# EAGLE library part ATTINY*14 (library atmel)
8-bit AVR tiny-1-series Microcontroller CPU: two-cycle hardware multiplier single pin Unified Program Debug Interface (UPDI) programmable watchdog timer with separate on-chip oscillator programmable brown-out detection circuit with software disable function internal calibrated oscillator Status aktiv aktiv aktiv aktiv ATtiny214 ATtiny414 ATtiny814 ATtiny1614 General purpose working registers 32 SRAM 128 B 256 B 512 B 2 kB Program flash memory 2 kB 4 kB 8 kB 16 kB EEPROM 64 B 128 B 128 B 256 B 16-bit Timer/Counter type A (TCA) 1 16-bit Timer/Counter type B (TCB) 1 2 12-bit Timer/Counter type D (TCD) 1 Real Time Counter (RTC) 1 USART 1 SPI 1 TWI (I2C) 1 ADC 1 2 ADC channels 10 10+4 ADC resolution 10 bit DAC 1 3 AC 1 3 Peripheral Touch Controller (PTC) - 1 PTC number of self-capacitance channels - 6 PTC number of mutual-capacitance channels - 9 Custom Configurable Logic/Lookup tables 1/2 Window Watchdog 1 Event System channels 6 General purpose I/O 12 External interrupts 12 CRCSCAN 1 Operating voltage 1.8 ... 5.5 V Speed grade 0 ... 5 MHz @ 1.8 ... 5.5 V 0 ... 10 MHz @ 2.7 ... 5.5 V 0 ... 20 MHz @ 4.5 ... 5.5 V Clock options internal 16/20 MHz low power RC oscillator internal 32.768 kHz ultra low power RC oscillator external 32.768 kHz low-frequency crystal oscillator external clock input Pin Name Other/Special ADC0 ADC1 PTC AC0 AC1 AC2 DAC0 USART0 SPI0 TWI0 TCA0 TCBn TCD0 CCL PA0 !RESET, UPDI AIN0 LUT0-IN0 PA1 AIN1 TxD MOSI SDA LUT0-IN1 PA2 EVOUT0 AIN2 RxD MISO SCL LUT0-IN2 PA3 EXTCLK AIN3 XCK SCK WO3 TCB1 WO PA4 AIN4 AIN0 X0/Y0 XDIR !SS WO4 WOA LUT0-OUT PA5 VREFA AIN5 AIN1 X1/Y1 OUT AINN0 WO5 TCB0 WO WOB PA6 AIN6 AIN2 X2/Y2 AINN0 AINP1 AINP0 OUT PA7 AIN7 AIN3 X3/Y3 AINP0 AINP0 AINN0 LUT1-OUT PB3 TOSC1 OUT RxD WO0 PB2 TOSC2, EVOUT1 OUT TxD WO2 PB1 AIN10 X4/Y4 AINP2 XCK SDA WO1 PB0 AIN11 X5/Y5 AINP2 AINP1 XDIR SCL WO0 only available in devices with 8/16KByte flash, X- or Y-line only available in device ATtiny1614
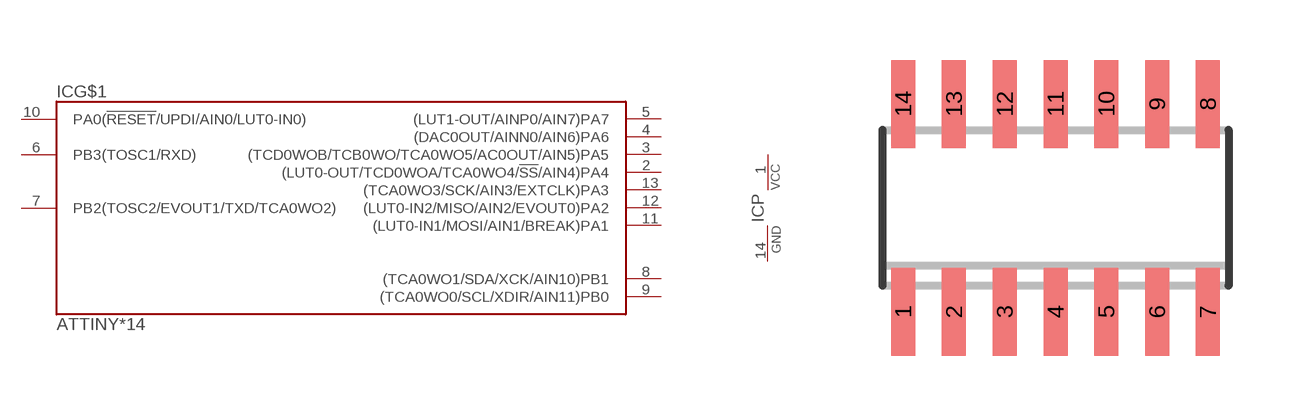
[diagram p89: symbol with the pads of SO14; footprint SO14]

Designator prefix IC; gates G$1=TINY814 P=PWR

## ATTINY1614-SSN, ATTINY214-SSN, ATTINY414-SSN, ATTINY814-SSN  [SO14]
1  P:VCC  pwr
2  G$1:(LUT0-OUT/TCD0WOA/TCA0WO4/!SS!/AIN4)PA4
3  G$1:(TCD0WOB/TCB0WO/TCA0WO5/AC0OUT/AIN5)PA5
4  G$1:(DAC0OUT/AINN0/AIN6)PA6
5  G$1:(LUT1-OUT/AINP0/AIN7)PA7
6  G$1:PB3(TOSC1/RXD)
7  G$1:PB2(TOSC2/EVOUT1/TXD/TCA0WO2)
8  G$1:(TCA0WO1/SDA/XCK/AIN10)PB1
9  G$1:(TCA0WO0/SCL/XDIR/AIN11)PB0
10  G$1:PA0(!RESET!/UPDI/AIN0/LUT0-IN0)
11  G$1:(LUT0-IN1/MOSI/AIN1/BREAK)PA1
12  G$1:(LUT0-IN2/MISO/AIN2/EVOUT0)PA2
13  G$1:(TCA0WO3/SCK/AIN3/EXTCLK)PA3
14  P:GND  pwr

## ATTINY1614-SSF, ATTINY214-SSF, ATTINY414-SSF, ATTINY814-SSF  [SO14]
Pads as for SO14

## Footprint SO14 (pad centres in mm)
Small Outline IC, 150mil body width, 50mil lead pitch package/pad dimensions according to IPC-SM-782, RLP No. 302A JEDEC: MS-012 AB IPC: SO14 other notations: SO-14, SOIC14, SOIC-14
smd 0.6 x 2.2: 1 -3.81,-2.6; 2 -2.54,-2.6; 3 -1.27,-2.6; 4 0,-2.6; 5 1.27,-2.6; 6 2.54,-2.6; 7 3.81,-2.6; 8 3.81,2.6; 9 2.54,2.6; 10 1.27,2.6; 11 0,2.6; 12 -1.27,2.6; 13 -2.54,2.6; 14 -3.81,2.6